# Altium footprint library WANGYU92100PcbLib.PcbLib: 392 footprints (part 25 of 25)
Each footprint in its own frame and in the unit in brackets; x right, y up, seen from the top. Pads: shape width x height; smd on the part's side, far side on the other; paste and mask are expansions set on the pad; w line width, h text height; cw(c..) or ccw(c..) is an arc to the next point about the centre after c.
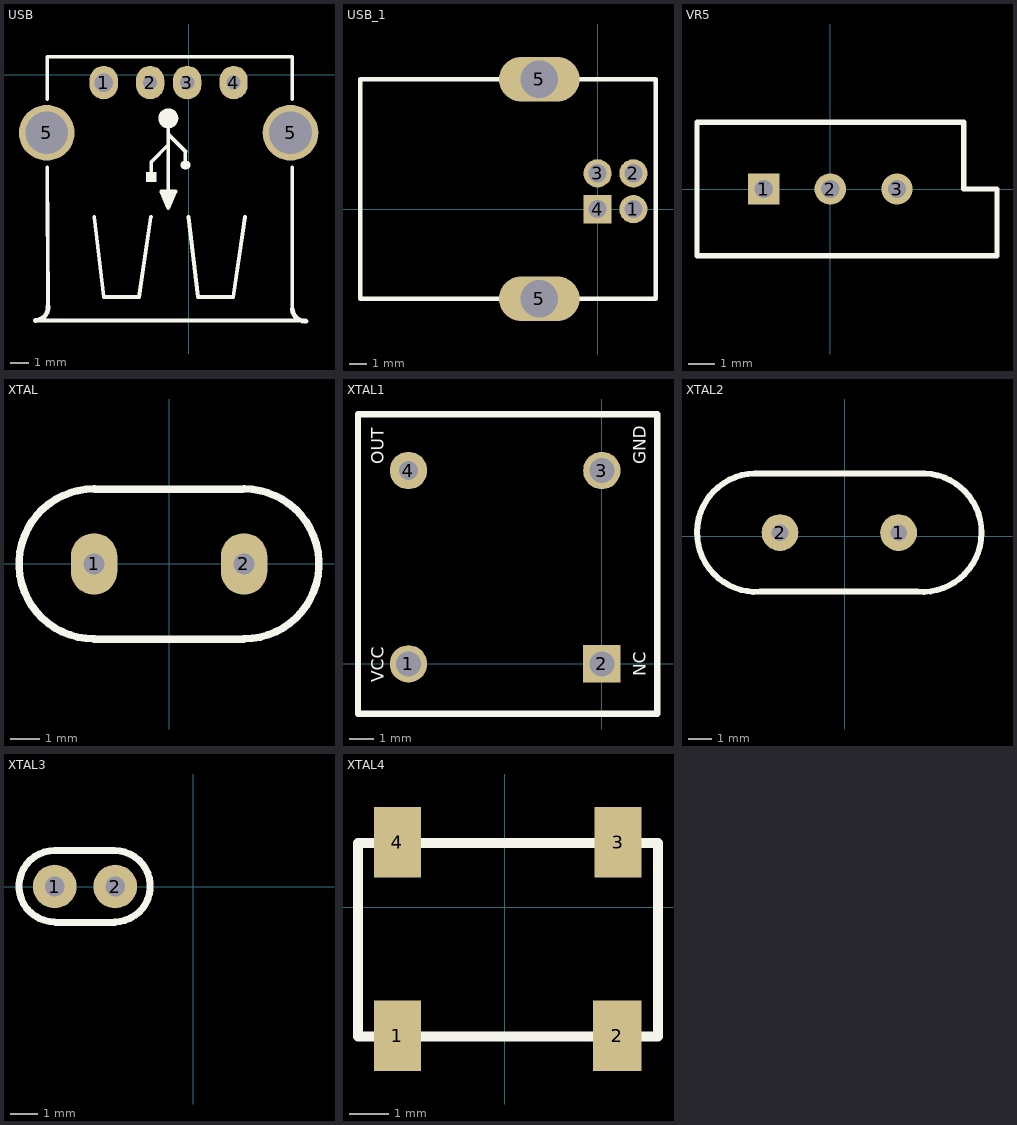
[diagram p24: the footprints below, top view; thin cyan lines are the x and y axes]

## USB [mil]
pads (6):
  oval 60x70.87 hole 39.37: 1(-180,-17)
  oval 60x70.87 hole 30: 2(-81.58,-17) 3(-2.83,-17) 4(95.59,-17)
  round 118.11 hole 90.55: 5(-300.87,-123.69) 5(216.46,-123.69)
Top Overlay:
  circle w20: c-43,-93 r11.18
  rectangle: -90,-228 -68,-207
  lines w8: -325,-522 248.19,-522 ; -300,-197 -298.19,-492 ; -300,-52 -300,38 220,38 220,-52 ; -200,-302 -180,-472 -105,-472 -80,-302 ; -79,-208 -79,-185 -43,-149 ; -43,-168 -43,-167 ; -43,-93 -43,-283 ; -42.73,-127.27 -6.73,-163.27 ; -7,-183 -7,-164 ; 0,-302 20,-472 95,-472 120,-302 ; 220,-497 220,-197 ; -43,-283 -58,-248 -28,-248 -43,-283
  lines w10: -325,-522 ccw(c-326.6,-493.59) -298.19,-492 ; 220,-497 ccw(c248.41,-495.41) 250,-523.81
  lines w20: -43,-268 -43,-253 ; -7,-192 -6,-192

## USB_1 [mm]
pads (6):
  round 1.575 hole 1.016: 1(2,0) 2(2,2) 3(0,2)
  rect 1.575x1.575 hole 1.016: 4(0,0)
  oval 4.5x2.5 hole 2.1: 5(-3.25,-5) 5(-3.25,7.25)
Top Overlay:
  lines w0.254: -13.25,-5 -13.25,7.25 3.25,7.25 3.25,-5 -13.25,-5

## VR5 [mm] "3296"
pads (3):
  rect 1.2x1.2 hole 0.7: 1(-2.54,0)
  round 1.2 hole 0.7: 2(0,0) 3(2.54,0)
Top Overlay:
  lines w0.2: -5.08,-2.54 -5.08,2.54 5.08,2.54 5.08,0 6.35,0 6.35,-2.54 -5.08,-2.54

## XTAL [mil]
pads (2):
  oval 62x82 hole 28: 1(-100,0) 2(100,0)
Top Overlay:
  lines w10: -100,-100.39 99.8,-100.39 ; -100,-100 cw(c-100,0) -100,100 ; -99.02,99.41 98.62,99.37 ; 100,-100 ccw(c100,0) 100,100

## XTAL1 [mil]
pads (4):
  round 60 hole 40: 1(-310.08,-0.1) 3(-0.08,309.9)
  rect 60x60 hole 40: 2(0,0)
  round 60 hole 30: 4(-310.08,309.9)
Top Overlay:
  lines w10: -391.02,-80 88.98,-80 88.98,400 -391.02,400 -391.02,-80
  text "VCC" at -350,-30 h20
  text "OUT" at -350,320 h20
  text "GND" at 70,320 h20
  text "NC" at 70,-20 h20

## XTAL2 [mil]
pads (2):
  round 62 hole 28: 1(91,6) 2(-109,6)
Top Overlay:
  lines w10: -141.03,105.68 ccw(c-149,6) -142.56,-93.79 -142.45,-93.68 123.03,-93.68 ; 123.03,-93.68 ccw(c131,6) 124.56,105.79 -140.91,105.79 ; -140.91,105.79 -141.03,105.68 -140.91,105.79

## XTAL3 [mil]
pads (2):
  round 62 hole 28: 1(-196.85,0) 2(-111,0)
Top Overlay:
  lines w10: -111.89,-50.11 ccw(c-111.89,0.49) -111.89,51.1 -197,51.1 ccw(c-197,0.55) -197,-50 -196,-51 -111,-51

## XTAL4 [mil]
pads (4):
  rect 47.24x70 smd: 1(-107,-128) 3(113,65) 4(-107,65)
  rect 48.42x70 smd: 2(112,-128)
Top Overlay:
  lines w10: -146.37,-128.81 -146.37,64.1 152.84,64.1 152.84,-128.81 -146.37,-128.81